# Altium footprint library BH1000G.PcbLib: 1 footprints
Each footprint in its own frame and in the unit in brackets; x right, y up, seen from the top. Pads: shape width x height; smd on the part's side, far side on the other; paste and mask are expansions set on the pad; w line width, h text height; cw(c..) or ccw(c..) is an arc to the next point about the centre after c.
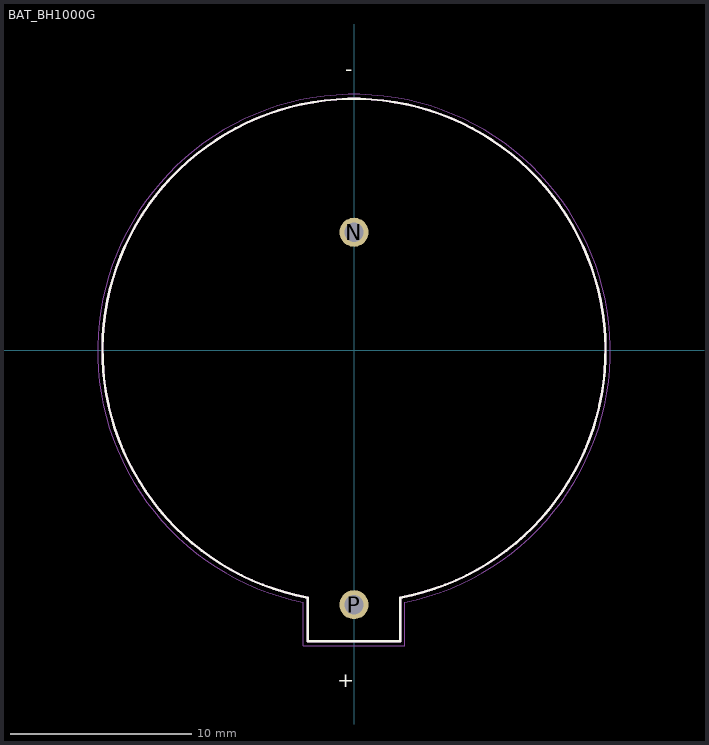
[diagram p0: the footprint, top view; thin cyan lines are the x and y axes]

## BAT_BH1000G [mil]
pads (2):
  round 63 hole 42: N(0,255.91) P(0,-551.18)
F.SilkS:
  lines w5: -100,-630.12 100,-630.12 100,-536.02 ccw(c0,-0.13) -100,-536.02 -100,-630.12
  text "+" at -35.81,-740.81 h55.12
  text "-" at -19.13,583.11 h55.12
F.CrtYd:
  lines w1.97: -109.84,-639.96 109.84,-639.96 109.84,-545.87 ccw(c0,-1.11) -109.84,-545.87 -109.84,-639.96
F.Fab:
  lines w5: -100,-630.12 100,-630.12 100,-536.02 ccw(c0,-0.13) -100,-536.02 -100,-630.12
  text "+" at -35.81,-740.81 h55.12
  text "-" at -19.13,583.11 h55.12